# EAGLE library part BUCK,LM2679SX-ADJ (library X15-Conversion)
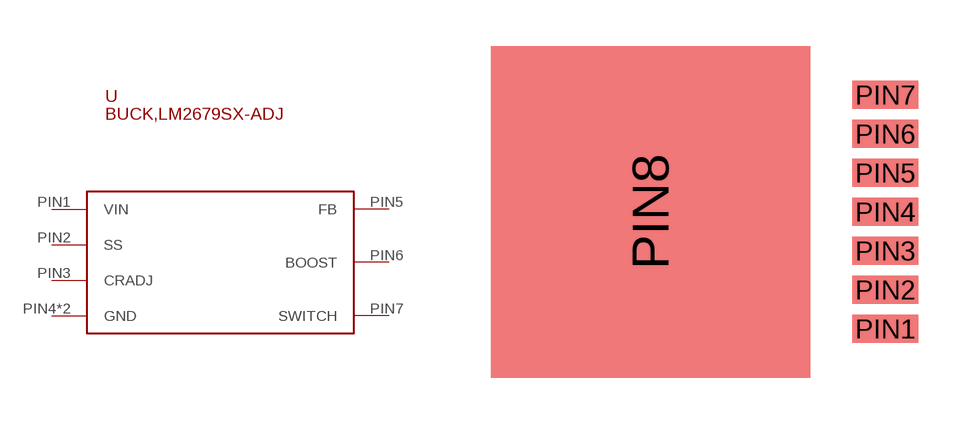
[diagram p0: symbol with the pads of BUCK,LM2679SX-ADJ; footprint BUCK,LM2679SX-ADJ]

Designator prefix -

## BUCK,LM2679SX-ADJ  [BUCK,LM2679SX-ADJ]
PIN1  VIN
PIN2  SS
PIN3  CRADJ
PIN4  GND
PIN5  FB
PIN6  BOOST
PIN7  SWITCH
PIN8  GND

## Footprint BUCK,LM2679SX-ADJ (pad centres in mm)
smd 2.16 x 0.91: PIN1 0,-7.62; PIN2 0,-6.35; PIN3 0,-5.08; PIN4 0,-3.81; PIN5 0,-2.54; PIN6 0,-1.27; PIN7 0,0
smd 10.41 x 10.8: PIN8 -7.655,-3.81